# EAGLE library part SERVO-3X6 (library pixhawk2)
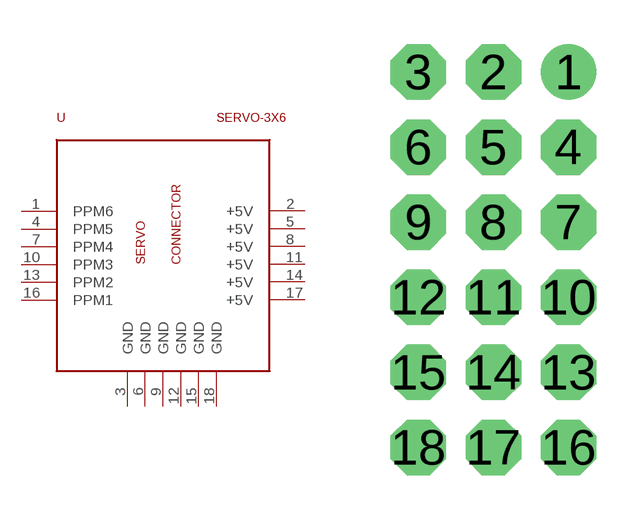
[diagram p77: symbol with the pads of 3X6RA; footprint 3X6RA]

Designator prefix -

## SERVO-3X6  [3X6RA]
1  PPM6
2  +5V
3  GND
4  PPM5
5  +5V
6  GND
7  PPM4
8  +5V
9  GND
10  PPM3
11  +5V
12  GND
13  PPM2
14  +5V
15  GND
16  PPM1
17  +5V
18  GND

## Footprint 3X6RA (pad centres in mm)
drill 1.016 pad 1.88: 1 3.81,6.35
drill 1.016 pad 1.88 octagon: 2 1.27,6.35; 3 -1.27,6.35; 4 3.81,3.81; 5 1.27,3.81; 6 -1.27,3.81; 7 3.81,1.27; 8 1.27,1.27; 9 -1.27,1.27; 10 3.81,-1.27; 11 1.27,-1.27; 12 -1.27,-1.27; 13 3.81,-3.81; 14 1.27,-3.81; 15 -1.27,-3.81; 16 3.81,-6.35; 17 1.27,-6.35; 18 -1.27,-6.35